# Altium footprint library IC_ON_Semi_MAX809TTRG.PcbLib: 1 footprints
Each footprint in its own frame and in the unit in brackets; x right, y up, seen from the top. Pads: shape width x height; smd on the part's side, far side on the other; paste and mask are expansions set on the pad; w line width, h text height; cw(c..) or ccw(c..) is an arc to the next point about the centre after c.
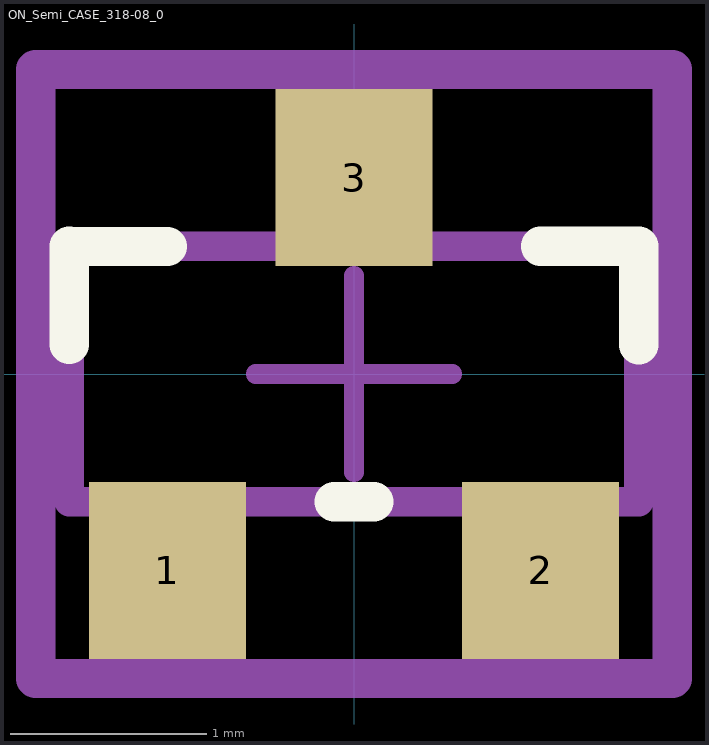
[diagram p0: the footprint, top view; thin cyan lines are the x and y axes]

## ON_Semi_CASE_318-08_0 [mm]
pads (3):
  rect 0.8x0.9 smd: 1(-0.95,-1) 2(0.95,-1) 3(0,1)
Top Overlay:
  lines w0.2: -1.451,0.15 -1.451,0.65 ; -1.451,0.649 -0.951,0.649 ; -0.1,-0.65 0.1,-0.65 ; 0.95,0.65 1.45,0.65 ; 1.45,0.149 1.45,0.649
Mechanical 10:
  lines w0.2: -1.62,-1.55 -1.62,1.55 1.62,1.55 1.62,-1.55 -1.62,-1.55
  text ".Designator" at 0,0 h1
Mechanical 12:
  lines w0.15: -1.45,-0.65 -1.45,0.65 1.45,0.65 1.45,-0.65 -1.45,-0.65
Mechanical 15:
  lines w0.1: -0.5,0 0.5,0 ; -0.465,0 0.465,0 ; 0,-0.5 0,0.5 ; 0,-0.465 0,0.465
  lines w0.2: -1.62,-1.55 -1.62,1.55 1.62,1.55 1.62,-1.55 -1.62,-1.55
3D body "MAX809TTRG.STEP": height 1.1, standoff -0.01, extent -1.45,-1.2 1.45,1.2